# Altium footprint library ADCSFootprints.PcbLib: 63 footprints (part 4 of 4)
Each footprint in its own frame and in the unit in brackets; x right, y up, seen from the top. Pads: shape width x height; smd on the part's side, far side on the other; paste and mask are expansions set on the pad; w line width, h text height; cw(c..) or ccw(c..) is an arc to the next point about the centre after c.
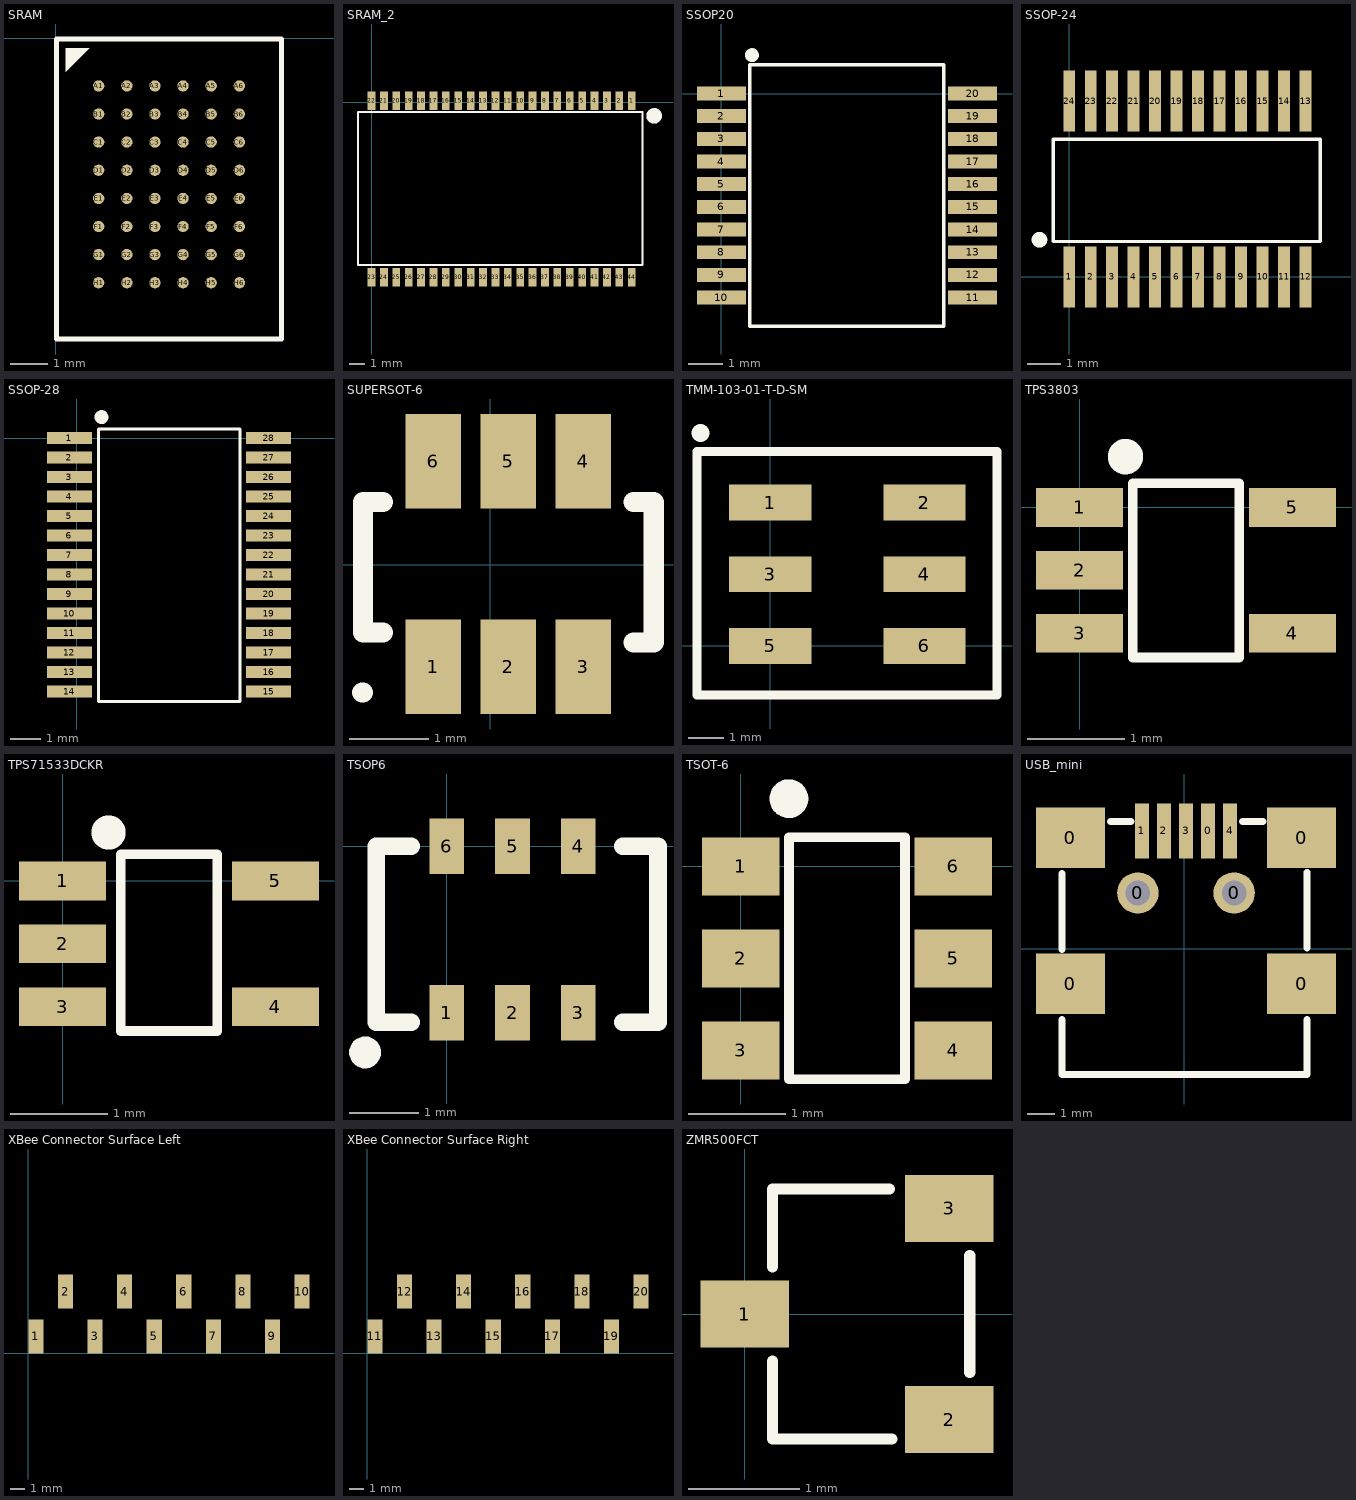
[diagram p3: the footprints below, top view; thin cyan lines are the x and y axes]

## SRAM [mm] "SRAM 6x8 BGA"
pads (48):
  round 0.3 smd: A1(1.15,-1.275) A2(1.9,-1.275) A3(2.65,-1.275) A4(3.4,-1.275) A5(4.15,-1.275) A6(4.9,-1.275) B1(1.15,-2.025) B2(1.9,-2.025) B3(2.65,-2.025) B4(3.4,-2.025) B5(4.15,-2.025) B6(4.9,-2.025) C1(1.15,-2.775) C2(1.9,-2.775) C3(2.65,-2.775) C4(3.4,-2.775) C5(4.15,-2.775) C6(4.9,-2.775) D1(1.15,-3.525) D2(1.9,-3.525) D3(2.65,-3.525) D4(3.4,-3.525) D5(4.15,-3.525) D6(4.9,-3.525) E1(1.15,-4.275) E2(1.9,-4.275) E3(2.65,-4.275) E4(3.4,-4.275) E5(4.15,-4.275) E6(4.9,-4.275) F1(1.15,-5.025) F2(1.9,-5.025) F3(2.65,-5.025) F4(3.4,-5.025) F5(4.15,-5.025) F6(4.9,-5.025) G1(1.15,-5.775) G2(1.9,-5.775) G3(2.65,-5.775) G4(3.4,-5.775) G5(4.15,-5.775) G6(4.9,-5.775) H1(1.15,-6.525) H2(1.9,-6.525) H3(2.65,-6.525) H4(3.4,-6.525) H5(4.15,-6.525) H6(4.9,-6.525)
Top Overlay:
  region: 0.275,-0.275 0.275,-0.9 0.9,-0.275
  lines w0.125: 0.025,-8.025 0.025,-0.025 6.025,-0.025 6.025,-8.025 0.025,-8.025

## SRAM_2 [mm] "44-pin Thin Small Outline Package Type II"
pads (44):
  rect 0.5x1.2 smd: 1(16.8,0.1) 2(16,0.1) 3(15.2,0.1) 4(14.4,0.1) 5(13.6,0.1) 6(12.8,0.1) 7(12,0.1) 8(11.2,0.1) 9(10.4,0.1) 10(9.6,0.1) 11(8.8,0.1) 12(8,0.1) 13(7.2,0.1) 14(6.4,0.1) 15(5.6,0.1) 16(4.8,0.1) 17(4,0.1) 18(3.2,0.1) 19(2.4,0.1) 20(1.6,0.1) 21(0.8,0.1) 22(0,0.1) 23(0,-11.3) 24(0.8,-11.3) 25(1.6,-11.3) 26(2.4,-11.3) 27(3.2,-11.3) 28(4,-11.3) 29(4.8,-11.3) 30(5.6,-11.3) 31(6.4,-11.3) 32(7.2,-11.3) 33(8,-11.3) 34(8.8,-11.3) 35(9.6,-11.3) 36(10.4,-11.3) 37(11.2,-11.3) 38(12,-11.3) 39(12.8,-11.3) 40(13.6,-11.3) 41(14.4,-11.3) 42(15.2,-11.3) 43(16,-11.3) 44(16.8,-11.3)
Top Overlay:
  circle w0.5: c18.25,-0.875 r0.25
  lines w0.125: -0.875,-10.5 -0.875,-0.625 17.5,-0.625 17.5,-10.5 -0.875,-10.5

## SSOP20 [mm]
pads (20):
  rrect0% 1.4x0.4 smd: 1(0,0) 2(0,-0.65) 3(0,-1.3) 4(0,-1.95) 5(0,-2.6) 6(0,-3.25) 7(0,-3.9) 8(0,-4.55) 9(0,-5.2) 10(0,-5.85) 11(7.2,-5.85) 12(7.2,-5.2) 13(7.2,-4.55) 14(7.2,-3.9) 15(7.2,-3.25) 16(7.2,-2.6) 17(7.2,-1.95) 18(7.2,-1.3) 19(7.2,-0.65) 20(7.2,0)
Top Overlay:
  lines w0.1: 0.81,-6.675 0.81,0.825 6.375,0.825 6.375,-6.675 0.81,-6.675
  lines w0.2: 0.974,1.116 ccw(c0.875,1.1) 0.975,1.1

## SSOP-24 [mm]
pads (24):
  rect 0.35x1.8 smd: 1(0,0) 2(0.635,0) 3(1.27,0) 4(1.905,0) 5(2.54,0) 6(3.175,0) 7(3.81,0) 8(4.445,0) 9(5.08,0) 10(5.715,0) 11(6.35,0) 12(6.985,0) 13(6.985,5.2) 14(6.35,5.2) 15(5.715,5.2) 16(5.08,5.2) 17(4.445,5.2) 18(3.81,5.2) 19(3.175,5.2) 20(2.54,5.2) 21(1.905,5.2) 22(1.27,5.2) 23(0.635,5.2) 24(0,5.2)
Top Overlay:
  circle w0.254: c-0.878,1.1 r0.103
  lines w0.1: -0.475,1.05 7.425,1.05 7.425,4.075 -0.475,4.075 -0.475,1.05

## SSOP-28 [mm] "UART to USB translator"
pads (28):
  rrect0% 1.5x0.4 smd: 1(-0.25,0) 2(-0.25,-0.65) 3(-0.25,-1.3) 4(-0.25,-1.95) 5(-0.25,-2.6) 6(-0.25,-3.25) 7(-0.25,-3.9) 8(-0.25,-4.55) 9(-0.25,-5.2) 10(-0.25,-5.85) 11(-0.25,-6.5) 12(-0.25,-7.15) 13(-0.25,-7.8) 14(-0.25,-8.45) 15(6.4,-8.45) 16(6.4,-7.8) 17(6.4,-7.15) 18(6.4,-6.5) 19(6.4,-5.85) 20(6.4,-5.2) 21(6.4,-4.55) 22(6.4,-3.9) 23(6.4,-3.25) 24(6.4,-2.6) 25(6.4,-1.95) 26(6.4,-1.3) 27(6.4,-0.65) 28(6.4,0)
Top Overlay:
  circle w0.254: c0.825,0.7 r0.103
  lines w0.1: 0.725,-8.775 0.725,0.3 5.45,0.3 5.45,-8.775 0.725,-8.775

## SUPERSOT-6 [mm] "MOSFET"
pads (6):
  rect 0.7x1.2 smd: 1(-0.725,-1.289) 2(0.225,-1.289) 3(1.175,-1.289) 4(1.175,1.311) 5(0.225,1.311) 6(-0.725,1.311)
Top Overlay:
  lines w0.254: -1.624,-1.616 -1.614,-1.616 ; -1.36,-0.854 -1.614,-0.854 -1.614,0.797 -1.36,0.797 ; 1.815,-0.981 2.069,-0.981 2.069,0.797 1.815,0.797

## TMM-103-01-T-D-SM [mm] "Programming header"
pads (6):
  rrect0% 2.3x1 smd: 1(0,4) 2(4.3,4) 3(0,2) 4(4.3,2) 5(0,0) 6(4.3,0)
Top Overlay:
  lines w0.254: 6.325,-1.375 -2.05,-1.375 -2.05,5.425 6.325,5.425 6.325,-1.325
  lines w0.5: -1.95,5.95 -1.95,5.95

## TPS3803 [mm]
pads (5):
  rrect0% 0.9x0.4 smd: 1(0,0) 2(0,-0.65) 3(0,-1.3) 4(2.2,-1.3) 5(2.2,0)
Top Overlay:
  circle w0.254: c0.475,0.525 r0.056
  lines w0.1: 0.55,-1.55 1.65,-1.55 1.65,0.25 0.55,0.25 0.55,-1.55

## TPS71533DCKR [mm]
pads (5):
  rrect0% 0.9x0.4 smd: 1(0,0) 2(0,-0.65) 3(0,-1.3) 4(2.2,-1.3) 5(2.2,0)
Top Overlay:
  circle w0.254: c0.475,0.5 r0.05
  lines w0.1: 0.6,-1.55 0.6,0.275 1.6,0.275 1.6,-1.55 0.6,-1.55

## TSOP6 [mm] "TSOP6 footprint"
pads (6):
  rrect0% 0.5x0.8 smd: 1(0,-2.4) 2(0.95,-2.4) 3(1.9,-2.4) 4(1.9,0) 5(0.95,0) 6(0,0)
Top Overlay:
  circle w0.254: c-1.175,-2.975 r0.103
  lines w0.254: -0.508,-2.54 -1.016,-2.54 -1.016,0 -0.508,0 ; 2.54,-2.54 3.048,-2.54 3.048,0 2.54,0

## TSOT-6 [mm]
height 1
pads (6):
  rrect0% 0.8x0.6 smd: 1(0,0) 2(0,-0.95) 3(0,-1.9) 4(2.2,-1.9) 5(2.2,-0.95) 6(2.2,0)
Top Overlay:
  circle w0.2: c0.5,0.7 r0.1
  lines w0.1: 0.5,-2.2 0.5,0.3 1.7,0.3 1.7,-2.2 0.5,-2.2

## USB_mini [mm]
pads (11):
  rect 2.5x2.2 smd: 0(-4.13,-1.263) 0(-4.13,4.037) 0(4.27,-1.263) 0(4.27,4.037)
  round 1.5 hole 0.9: 0(-1.68,2.037) 0(1.82,2.037)
  rect 0.5x2 smd: 0(0.87,4.287) 1(-1.53,4.287) 2(-0.73,4.287) 3(0.07,4.287) 4(1.67,4.287)
Top Overlay:
  lines w0.25: -4.43,-2.563 -4.43,-4.563 4.47,-4.563 4.47,-2.563 ; -4.43,-0.013 -4.43,2.737 ; -2.68,4.637 -1.93,4.637 ; 2.12,4.637 2.87,4.637 ; 4.47,0.037 4.47,2.787

## XBee Connector Surface Left [mm] "Surface Mount Left"
height 4.3
pads (10):
  rect 1.025x2.3 smd: 1(0.513,1.15) 2(2.513,4.19) 3(4.513,1.15) 4(6.513,4.19) 5(8.513,1.15) 6(10.513,4.19) 7(12.513,1.15) 8(14.513,4.19) 9(16.513,1.15) 10(18.513,4.19)

## XBee Connector Surface Right [mm] "Surface Mount Right"
height 4.3
pads (10):
  rect 1.025x2.3 smd: 11(0.513,1.15) 12(2.513,4.19) 13(4.513,1.15) 14(6.513,4.19) 15(8.513,1.15) 16(10.513,4.19) 17(12.513,1.15) 18(14.513,4.19) 19(16.513,1.15) 20(18.513,4.19)

## ZMR500FCT [mm]
pads (3):
  rrect0% 0.8x0.6 smd: 1(0,0) 2(1.84,-0.95) 3(1.84,0.95)
Top Overlay:
  lines w0.1: 0.25,-0.425 0.25,-1.125 1.325,-1.125 ; 0.25,0.425 0.25,1.125 1.3,1.125 ; 2.025,-0.525 2.025,0.525